# Altium footprint library ELEC(10.0X12.4)-AV.PcbLib: 1 footprints
Each footprint in its own frame and in the unit in brackets; x right, y up, seen from the top. Pads: shape width x height; smd on the part's side, far side on the other; paste and mask are expansions set on the pad; w line width, h text height; cw(c..) or ccw(c..) is an arc to the next point about the centre after c.
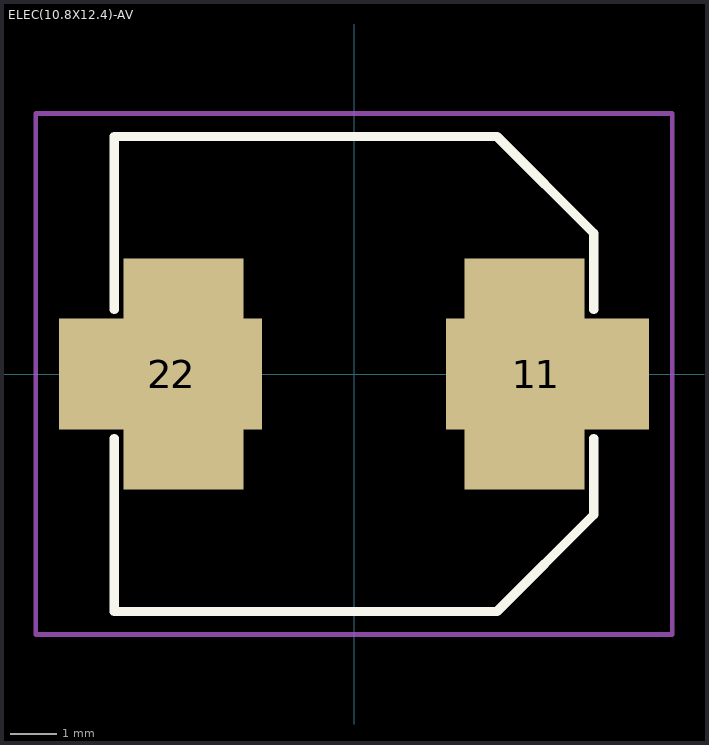
[diagram p0: the footprint, top view; thin cyan lines are the x and y axes]

## ELEC(10.8X12.4)-AV [mm]
pads (4):
  rect 2.6x5 smd: 1(3.7,0) 2(-3.7,0)
  rect 4.4x2.4 smd: 1(4.2,0) 2(-4.2,0)
Top Overlay:
  lines w0.2: -5.2,-1.4 -5.2,-5.15 3.1,-5.15 5.2,-3.05 5.2,-1.4 ; -5.2,1.4 -5.2,5.15 3.1,5.15 5.2,3.05 5.2,1.4
Top Courtyard:
  lines w0.1: -6.9,-1.2 -6.9,-5.65 ; -5.5,-5.65 -6.9,-5.65 ; 5.5,5.65 6.9,5.65 ; 6.9,1.2 6.9,5.65 ; -6.9,-5.65 6.9,-5.65 6.9,5.65 ; -6.9,-5.65 -6.9,5.65 6.9,5.65
3D body "User Library-CAP SMD SVP 10_0x12_6.STEP": height 12.6, standoff 0, extent -5.5,-5.15 5.5,5.15